# EAGLE library part FXOS870CQ (library Freescale_Sensors_v2)
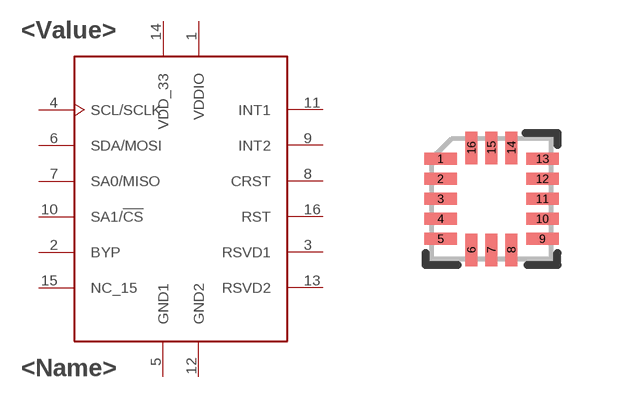
[diagram p8: symbol with the pads of QFN16_0P5_3X3; footprint QFN16_0P5_3X3]

Designator prefix -

## FXOS870CQ  [QFN16_0P5_3X3]
1  VDDIO  pwr
2  BYP
3  RSVD1  pwr
4  SCL/SCLK
5  GND1  pwr
6  SDA/MOSI
7  SA0/MISO
8  CRST  pas
9  INT2  out
10  SA1/!CS
11  INT1  out
12  GND2  pwr
13  RSVD2  pwr
14  VDD_33  pwr
15  NC_15  nc
16  RST  in

## Footprint QFN16_0P5_3X3 (pad centres in mm)
smd 0.813 x 0.305: 1 -1.275,1; 2 -1.275,0.5; 3 -1.275,0; 4 -1.275,-0.5; 5 -1.275,-1; 9 1.275,-1; 10 1.275,-0.5; 11 1.275,0; 12 1.275,0.5; 13 1.275,1
smd 0.305 x 0.813: 6 -0.5,-1.275; 7 0,-1.275; 8 0.5,-1.275; 14 0.5,1.275; 15 0,1.275; 16 -0.5,1.275